# EAGLE library part 7201 (library S-Toggle)
ON - none - ON 7201SYCQE [C&K,7201SYCQE] SWITCH TOGGLE 2PDT 5A 120V
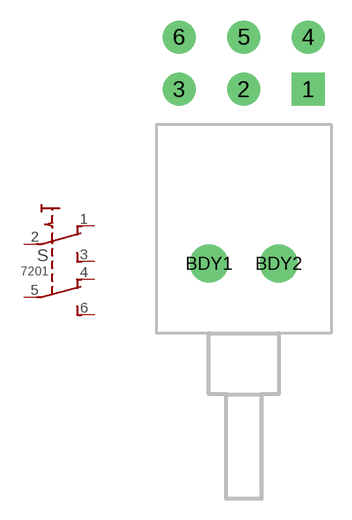
[diagram p0: symbol with the pads of 7201; footprint 7201]

Designator prefix S

## 7201  [7201]
1  NC1  pas
2  COM1  pas
3  NO1  pas
4  NC2  pas
5  COM2  pas
6  NO2  pas

## Footprint 7201 (pad centres in mm)
drill 1.6 square: 1 4.7,0
drill 1.6: 2 0,0; 3 -4.7,0; 4 4.7,3.81; 5 0,3.81; 6 -4.7,3.81
drill 1.85: BDY1 -2.54,-12.7; BDY2 2.54,-12.7